# Altium footprint library Raspberry Pi.PcbLib: 2 footprints
Each footprint in its own frame and in the unit in brackets; x right, y up, seen from the top. Pads: shape width x height; smd on the part's side, far side on the other; paste and mask are expansions set on the pad; w line width, h text height; cw(c..) or ccw(c..) is an arc to the next point about the centre after c.
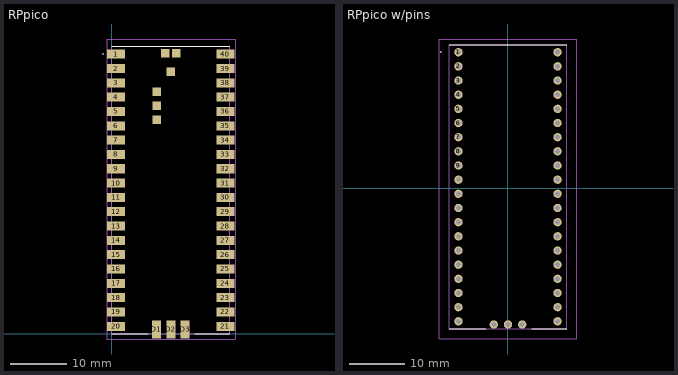
[diagram p0: the footprints below, top view; thin cyan lines are the x and y axes]

## RPpico [mm]
pads (49):
  rect 3.2x1.6 smd: 1(0.81,49.63) 2(0.81,47.09) 3(0.81,44.55) 4(0.81,42.01) 5(0.81,39.47) 6(0.81,36.93) 7(0.81,34.39) 8(0.81,31.85) 9(0.81,29.31) 10(0.81,26.77) 11(0.81,24.23) 12(0.81,21.69) 13(0.81,19.15) 14(0.81,16.61) 15(0.81,14.07) 16(0.81,11.53) 17(0.81,8.99) 18(0.81,6.45) 19(0.81,3.91) 20(0.81,1.37) 21(20.19,1.37) 22(20.19,3.91) 23(20.19,6.45) 24(20.19,8.99) 25(20.19,11.53) 26(20.19,14.07) 27(20.19,16.61) 28(20.19,19.15) 29(20.19,21.69) 30(20.19,24.23) 31(20.19,26.77) 32(20.19,29.31) 33(20.19,31.85) 34(20.19,34.39) 35(20.19,36.93) 36(20.19,39.47) 37(20.19,42.01) 38(20.19,44.55) 39(20.19,47.09) 40(20.19,49.63)
  rect 1.6x3.2 smd: D1(7.96,0.8) D2(10.5,0.8) D3(13.04,0.8)
  rect 1.5x1.5 smd: TP1(10.5,46.5) TP2(11.5,49.8) TP3(9.5,49.8) TP4(8,43) TP5(8,40.5) TP6(8,38)
Top Overlay:
  lines w0.1: 0,0 6.5,0 0,0 ; 0,51 21,51 0,51 ; 14.75,0 21,0 14.75,0
  lines w0.2: -1.6,49.7 ccw(c-1.55,49.7) -1.5,49.7 ; -1.6,49.7 cw(c-1.55,49.7) -1.5,49.7 ; -1.6,49.7 ccw(c-1.55,49.7) -1.5,49.7
Mechanical 13:
  lines w0.2: 0,0 21,0 21,51 0,51 0,0
Mechanical 15:
  lines w0.1: -0.889,-0.889 21.971,-0.889 21.971,52.324 -0.889,52.324 -0.889,-0.889
3D body "Raspberry Pi Pico-R3.STEP": height 3.69, standoff 0, extent 0.041,-0.102 21.041,52.324

## RPpico w/pins [mm]
pads (43):
  round 1.5 hole 0.9: 1(-8.89,24.415) 2(-8.89,21.875) 3(-8.89,19.335) 4(-8.89,16.795) 5(-8.89,14.255) 6(-8.89,11.715) 7(-8.89,9.175) 8(-8.89,6.635) 9(-8.89,4.095) 10(-8.89,1.555) 11(-8.89,-0.985) 12(-8.89,-3.525) 13(-8.89,-6.065) 14(-8.89,-8.605) 15(-8.89,-11.145) 16(-8.89,-13.685) 17(-8.89,-16.225) 18(-8.89,-18.765) 19(-8.89,-21.305) 20(-8.89,-23.845) 21(8.89,-23.845) 22(8.89,-21.305) 23(8.89,-18.765) 24(8.89,-16.225) 25(8.89,-13.685) 26(8.89,-11.145) 27(8.89,-8.605) 28(8.89,-6.065) 29(8.89,-3.525) 30(8.89,-0.985) 31(8.89,1.555) 32(8.89,4.095) 33(8.89,6.635) 34(8.89,9.175) 35(8.89,11.715) 36(8.89,14.255) 37(8.89,16.795) 38(8.89,19.335) 39(8.89,21.875) 40(8.89,24.415) D1(-2.54,-24.415) D2(0,-24.415) D3(2.54,-24.415)
Top Overlay:
  lines w0.1: -10.5,-25.215 -4,-25.215 -10.5,-25.215 ; -10.5,25.785 10.5,25.785 -10.5,25.785 ; 4.25,-25.215 10.5,-25.215 4.25,-25.215
  lines w0.2: -12.1,24.485 ccw(c-12.05,24.485) -12,24.485 ; -12.1,24.485 cw(c-12.05,24.485) -12,24.485 ; -12.1,24.485 ccw(c-12.05,24.485) -12,24.485
Mechanical 13:
  lines w0.2: -10.5,-25.215 10.5,-25.215 10.5,25.785 -10.5,25.785 -10.5,-25.215
Mechanical 15:
  lines w0.1: -12.29,-27.015 12.29,-27.015 12.29,26.785 -12.29,26.785 -12.29,-27.015
3D body "Raspberry Pi Pico_PinsDown.STEP": height 6.48, standoff -6.25, extent -10.541,-25.273 10.459,27.027